# Altium schematic symbol library SCH - POWER - VOLTAGE REFERENCES - MAXIM MAX6126.SCHLIB: 1 symbol
Pins are listed as number, name and electrical type; pins without a type are passive.

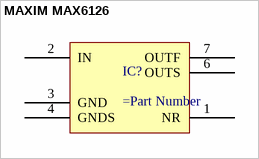
[diagram p0: symbol MAXIM MAX6126]

## MAXIM MAX6126
designator IC?
pins: 1 NR, 2 IN, 3 GND, 4 GNDS, 6 OUTS, 7 OUTF